# EAGLE library part LSS-110-01-F-DV-A-TR (library sensor_floor)
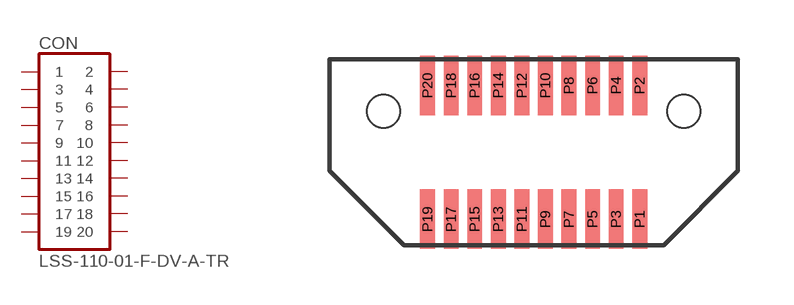
[diagram p3: symbol with the pads of LSS-110-01-F-DV-A-TR; footprint LSS-110-01-F-DV-A-TR]

Designator prefix CON

## LSS-110-01-F-DV-A-TR  [LSS-110-01-F-DV-A-TR]
P1  1
P2  2
P3  3
P4  4
P5  5
P6  6
P7  7
P8  8
P9  9
P10  10
P11  11
P12  12
P13  13
P14  14
P15  15
P16  16
P17  17
P18  18
P19  19
P20  20

## Footprint LSS-110-01-F-DV-A-TR (pad centres in mm)
smd 0.4 x 1.6: P1 2.857,-1.8; P2 2.857,1.8; P3 2.223,-1.8; P4 2.223,1.8; P5 1.587,-1.8; P6 1.587,1.8; P7 0.953,-1.8; P8 0.953,1.8; P9 0.318,-1.8; P10 0.318,1.8; P11 -0.318,-1.8; P12 -0.318,1.8; P13 -0.953,-1.8; P14 -0.953,1.8; P15 -1.587,-1.8; P16 -1.587,1.8; P17 -2.223,-1.8; P18 -2.223,1.8; P19 -2.857,-1.8; P20 -2.857,1.8
hole 0.89 at 4.04,1.1
hole 0.89 at -4.04,1.1